# EAGLE library part SA40-19* (library isystems)
Kingbright 101.2mm (4.0Inch) SINGLE DIGIT NUMERIC DISPLAY
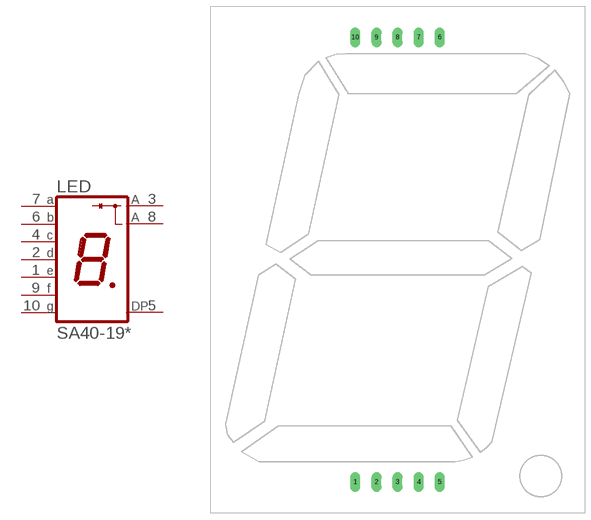
[diagram p2: symbol with the pads of KING_SX-40; footprint KING_SX-40]

Designator prefix LED

## SA40-19CGKWA (COLOR: Green), SA40-19EWA (COLOR: Red), SA40-19SEKWA (COLOR: Orange), SA40-19SGWA (COLOR: Green), SA40-19SRWA (COLOR: Red), SA40-19SURKWA (COLOR: Red)  [KING_SX-40]
1  E  pas
2  D  pas
3  A  pas
4  C  pas
5  DP  pas
6  B  pas
7  A  pas
8  A  pas
9  F  pas
10  G  pas

## Footprint KING_SX-40 (pad centres in mm)
drill 1.6 long: 1 -10.16,-53.5; 2 -5.08,-53.5; 3 0,-53.5; 4 5.08,-53.5; 5 10.16,-53.5; 6 10.16,53.5; 7 5.08,53.5; 8 0,53.5; 9 -5.08,53.5; 10 -10.16,53.5